# Altium footprint library MyLibrary.PcbLib: 365 footprints (part 3 of 23)
Each footprint in its own frame and in the unit in brackets; x right, y up, seen from the top. Pads: shape width x height; smd on the part's side, far side on the other; paste and mask are expansions set on the pad; w line width, h text height; cw(c..) or ccw(c..) is an arc to the next point about the centre after c.
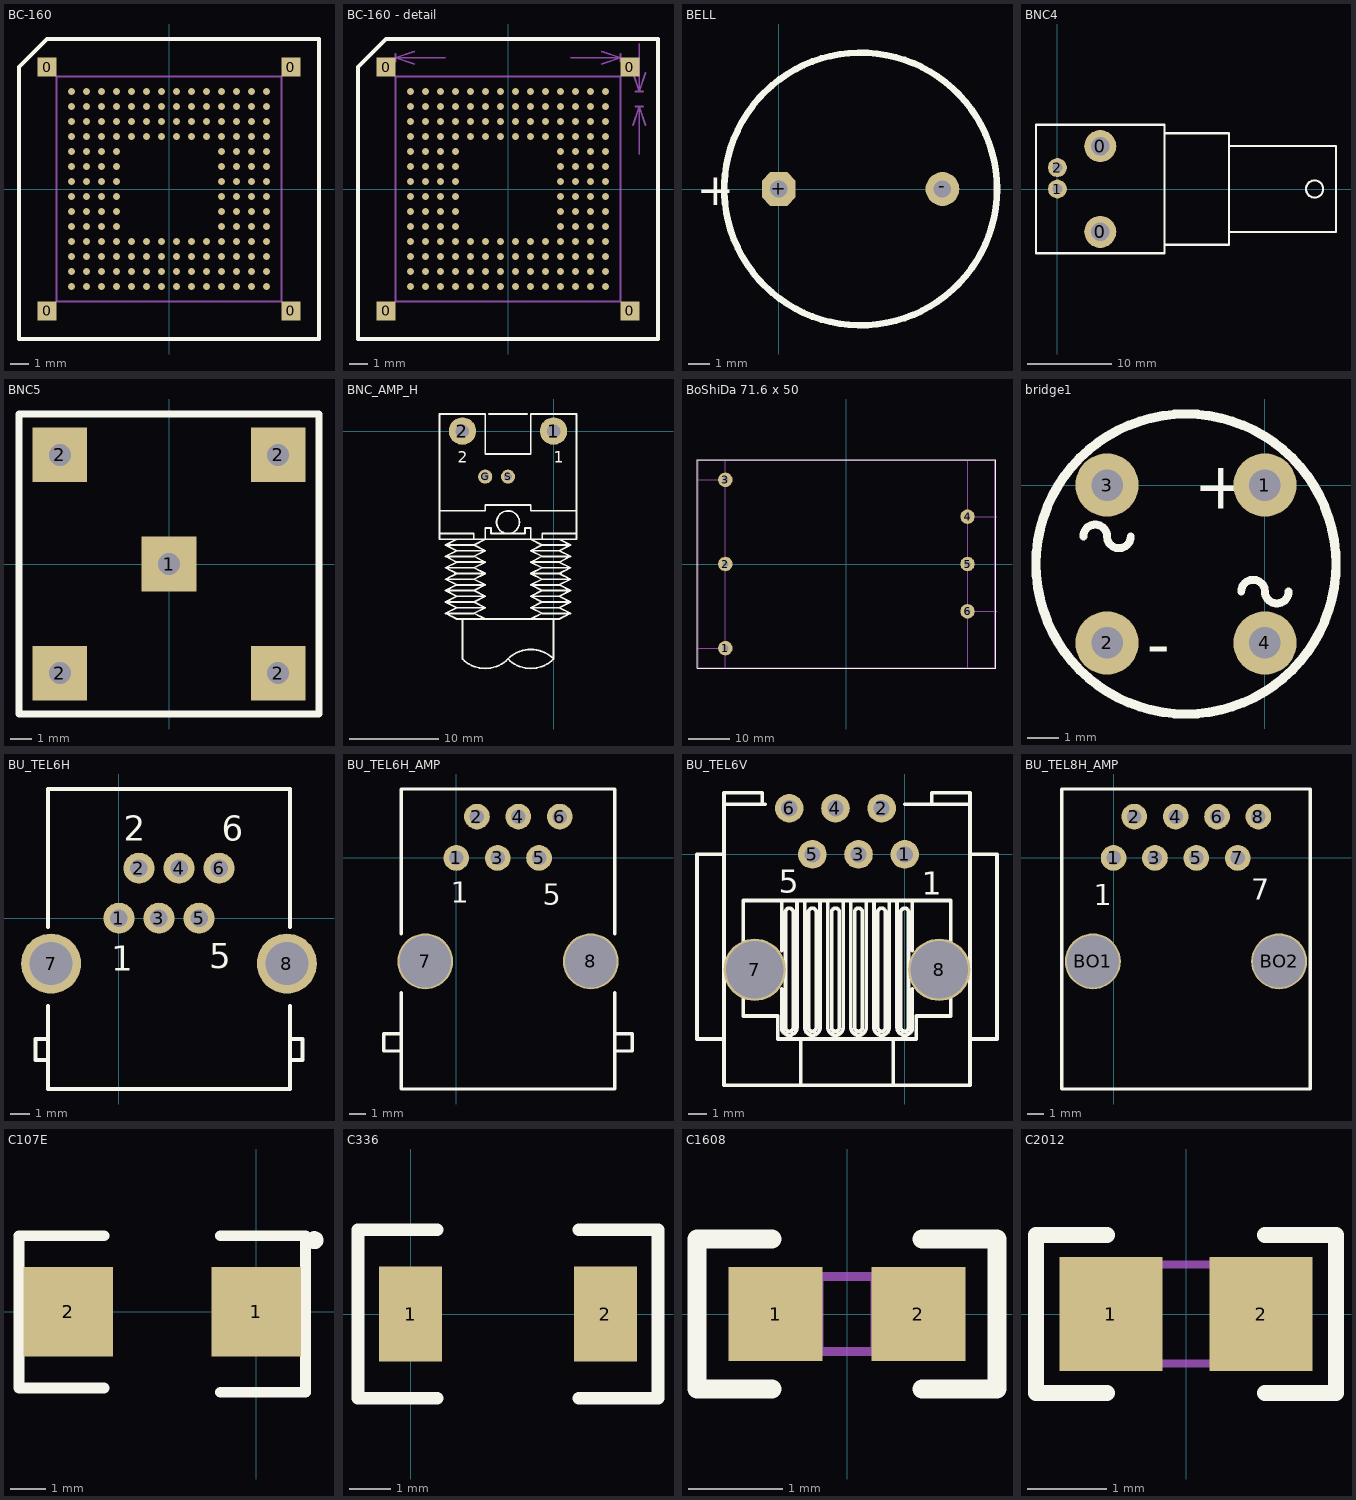
[diagram p2: the footprints below, top view; thin cyan lines are the x and y axes]

## BC-160 [mm]
pads (164):
  rect 1x1 smd: 0(-6.5,-6.5) 0(-6.5,6.5) 0(6.5,-6.5) 0(6.5,6.5)
  round 0.36 smd: A1(-5.2,5.2) A2(-4.4,5.2) A3(-3.6,5.2) A4(-2.8,5.2) A5(-2,5.2) A6(-1.2,5.2) A7(-0.4,5.2) A8(0.4,5.2) A9(1.2,5.2) A10(2,5.2) A11(2.8,5.2) A12(3.6,5.2) A13(4.4,5.2) A14(5.2,5.2) B1(-5.2,4.4) B2(-4.4,4.4) B3(-3.6,4.4) B4(-2.8,4.4) B5(-2,4.4) B6(-1.2,4.4) B7(-0.4,4.4) B8(0.4,4.4) B9(1.2,4.4) B10(2,4.4) B11(2.8,4.4) B12(3.6,4.4) B13(4.4,4.4) B14(5.2,4.4) C1(-5.2,3.6) C2(-4.4,3.6) C3(-3.6,3.6) C4(-2.8,3.6) C5(-2,3.6) C6(-1.2,3.6) C7(-0.4,3.6) C8(0.4,3.6) C9(1.2,3.6) C10(2,3.6) C11(2.8,3.6) C12(3.6,3.6) C13(4.4,3.6) C14(5.2,3.6) D1(-5.2,2.8) D2(-4.4,2.8) D3(-3.6,2.8) D4(-2.8,2.8) D5(-2,2.8) D6(-1.2,2.8) D7(-0.4,2.8) D8(0.4,2.8) D9(1.2,2.8) D10(2,2.8) D11(2.8,2.8) D12(3.6,2.8) D13(4.4,2.8) D14(5.2,2.8) E1(-5.2,2) E2(-4.4,2) E3(-3.6,2) E4(-2.8,2) E11(2.8,2) E12(3.6,2) E13(4.4,2) E14(5.2,2) F1(-5.2,1.2) F2(-4.4,1.2) F3(-3.6,1.2) F4(-2.8,1.2) F11(2.8,1.2) F12(3.6,1.2) F13(4.4,1.2) F14(5.2,1.2) G1(-5.2,0.4) G2(-4.4,0.4) G3(-3.6,0.4) G4(-2.8,0.4) G11(2.8,0.4) G12(3.6,0.4) G13(4.4,0.4) G14(5.2,0.4) H1(-5.2,-0.4) H2(-4.4,-0.4) H3(-3.6,-0.4) H4(-2.8,-0.4) H11(2.8,-0.4) H12(3.6,-0.4) H13(4.4,-0.4) H14(5.2,-0.4) J1(-5.2,-1.2) J2(-4.4,-1.2) J3(-3.6,-1.2) J4(-2.8,-1.2) J11(2.8,-1.2) J12(3.6,-1.2) J13(4.4,-1.2) J14(5.2,-1.2) K1(-5.2,-2) K2(-4.4,-2) K3(-3.6,-2) K4(-2.8,-2) K11(2.8,-2) K12(3.6,-2) K13(4.4,-2) K14(5.2,-2) L1(-5.2,-2.8) L2(-4.4,-2.8) L3(-3.6,-2.8) L4(-2.8,-2.8) L5(-2,-2.8) L6(-1.2,-2.8) L7(-0.4,-2.8) L8(0.4,-2.8) L9(1.2,-2.8) L10(2,-2.8) L11(2.8,-2.8) L12(3.6,-2.8) L13(4.4,-2.8) L14(5.2,-2.8) M1(-5.2,-3.6) M2(-4.4,-3.6) M3(-3.6,-3.6) M4(-2.8,-3.6) M5(-2,-3.6) M6(-1.2,-3.6) M7(-0.4,-3.6) M8(0.4,-3.6) M9(1.2,-3.6) M10(2,-3.6) M11(2.8,-3.6) M12(3.6,-3.6) M13(4.4,-3.6) M14(5.2,-3.6) N1(-5.2,-4.4) N2(-4.4,-4.4) N3(-3.6,-4.4) N4(-2.8,-4.4) N5(-2,-4.4) N6(-1.2,-4.4) N7(-0.4,-4.4) N8(0.4,-4.4) N9(1.2,-4.4) N10(2,-4.4) N11(2.8,-4.4) N12(3.6,-4.4) N13(4.4,-4.4) N14(5.2,-4.4) P1(-5.2,-5.2) P2(-4.4,-5.2) P3(-3.6,-5.2) P4(-2.8,-5.2) P5(-2,-5.2) P6(-1.2,-5.2) P7(-0.4,-5.2) P8(0.4,-5.2) P9(1.2,-5.2) P10(2,-5.2) P11(2.8,-5.2) P12(3.6,-5.2) P13(4.4,-5.2) P14(5.2,-5.2)
Top Overlay:
  lines w0.2: -8,-8 -8,6.5 -6.5,8 8,8 8,-8 -8,-8
Mechanical 1:
  lines w0.1: -6,-6 6,-6 6,6 -6,6 -6,-6

## BC-160 - detail [mm]
pads (164):
  rect 1x1 smd: 0(-6.5,-6.5) 0(-6.5,6.5) 0(6.5,-6.5) 0(6.5,6.5)
  round 0.36 smd: A1(-5.2,5.2) A2(-4.4,5.2) A3(-3.6,5.2) A4(-2.8,5.2) A5(-2,5.2) A6(-1.2,5.2) A7(-0.4,5.2) A8(0.4,5.2) A9(1.2,5.2) A10(2,5.2) A11(2.8,5.2) A12(3.6,5.2) A13(4.4,5.2) A14(5.2,5.2) B1(-5.2,4.4) B2(-4.4,4.4) B3(-3.6,4.4) B4(-2.8,4.4) B5(-2,4.4) B6(-1.2,4.4) B7(-0.4,4.4) B8(0.4,4.4) B9(1.2,4.4) B10(2,4.4) B11(2.8,4.4) B12(3.6,4.4) B13(4.4,4.4) B14(5.2,4.4) C1(-5.2,3.6) C2(-4.4,3.6) C3(-3.6,3.6) C4(-2.8,3.6) C5(-2,3.6) C6(-1.2,3.6) C7(-0.4,3.6) C8(0.4,3.6) C9(1.2,3.6) C10(2,3.6) C11(2.8,3.6) C12(3.6,3.6) C13(4.4,3.6) C14(5.2,3.6) D1(-5.2,2.8) D2(-4.4,2.8) D3(-3.6,2.8) D4(-2.8,2.8) D5(-2,2.8) D6(-1.2,2.8) D7(-0.4,2.8) D8(0.4,2.8) D9(1.2,2.8) D10(2,2.8) D11(2.8,2.8) D12(3.6,2.8) D13(4.4,2.8) D14(5.2,2.8) E1(-5.2,2) E2(-4.4,2) E3(-3.6,2) E4(-2.8,2) E11(2.8,2) E12(3.6,2) E13(4.4,2) E14(5.2,2) F1(-5.2,1.2) F2(-4.4,1.2) F3(-3.6,1.2) F4(-2.8,1.2) F11(2.8,1.2) F12(3.6,1.2) F13(4.4,1.2) F14(5.2,1.2) G1(-5.2,0.4) G2(-4.4,0.4) G3(-3.6,0.4) G4(-2.8,0.4) G11(2.8,0.4) G12(3.6,0.4) G13(4.4,0.4) G14(5.2,0.4) H1(-5.2,-0.4) H2(-4.4,-0.4) H3(-3.6,-0.4) H4(-2.8,-0.4) H11(2.8,-0.4) H12(3.6,-0.4) H13(4.4,-0.4) H14(5.2,-0.4) J1(-5.2,-1.2) J2(-4.4,-1.2) J3(-3.6,-1.2) J4(-2.8,-1.2) J11(2.8,-1.2) J12(3.6,-1.2) J13(4.4,-1.2) J14(5.2,-1.2) K1(-5.2,-2) K2(-4.4,-2) K3(-3.6,-2) K4(-2.8,-2) K11(2.8,-2) K12(3.6,-2) K13(4.4,-2) K14(5.2,-2) L1(-5.2,-2.8) L2(-4.4,-2.8) L3(-3.6,-2.8) L4(-2.8,-2.8) L5(-2,-2.8) L6(-1.2,-2.8) L7(-0.4,-2.8) L8(0.4,-2.8) L9(1.2,-2.8) L10(2,-2.8) L11(2.8,-2.8) L12(3.6,-2.8) L13(4.4,-2.8) L14(5.2,-2.8) M1(-5.2,-3.6) M2(-4.4,-3.6) M3(-3.6,-3.6) M4(-2.8,-3.6) M5(-2,-3.6) M6(-1.2,-3.6) M7(-0.4,-3.6) M8(0.4,-3.6) M9(1.2,-3.6) M10(2,-3.6) M11(2.8,-3.6) M12(3.6,-3.6) M13(4.4,-3.6) M14(5.2,-3.6) N1(-5.2,-4.4) N2(-4.4,-4.4) N3(-3.6,-4.4) N4(-2.8,-4.4) N5(-2,-4.4) N6(-1.2,-4.4) N7(-0.4,-4.4) N8(0.4,-4.4) N9(1.2,-4.4) N10(2,-4.4) N11(2.8,-4.4) N12(3.6,-4.4) N13(4.4,-4.4) N14(5.2,-4.4) P1(-5.2,-5.2) P2(-4.4,-5.2) P3(-3.6,-5.2) P4(-2.8,-5.2) P5(-2,-5.2) P6(-1.2,-5.2) P7(-0.4,-5.2) P8(0.4,-5.2) P9(1.2,-5.2) P10(2,-5.2) P11(2.8,-5.2) P12(3.6,-5.2) P13(4.4,-5.2) P14(5.2,-5.2)
Top Overlay:
  lines w0.2: -8,-8 -8,6.5 -6.5,8 8,8 8,-8 -8,-8
Mechanical 1:
  lines w0.1: -6,6.8 -6,7.2 ; -5,6.667 -6,7 ; -5,7.333 -6,7 ; -3.353,7 -6,7 ; 3.353,7 6,7 ; 5,6.667 6,7 ; 5,7.333 6,7 ; 6,6.8 6,7.2 ; 6.667,3.4 7,4.4 ; 6.667,6.2 7,5.2 ; 6.8,4.4 7.2,4.4 ; 6.8,5.2 7.2,5.2 ; 7,1.86 7,4.4 ; 7,7.74 7,5.2 ; 7.333,3.4 7,4.4 ; 7.333,6.2 7,5.2 ; -6,-6 6,-6 6,6 -6,6 -6,-6
  text "12 (mm)" at -1.9,6.8 h0.5
  text "0.8 (mm)" at 8.2,3 h0.5

## BELL [mil]
pads (2):
  oct 62x62 hole 32: +(0,0)
  round 62 hole 32: -(300,0)
Top Overlay:
  circle w12: c150,0 r250
  text "+" at -150,-30 h60

## BNC4 [mil]
pads (4):
  round 150 hole 86: 0(200,-200) 0(200,200)
  round 88 hole 48: 1(0,0) 2(0,100)
Top Overlay:
  circle w10: c1200,0 r40
  lines w10: 500,-260 800,-260 800,260 500,260 ; 800,-200 1300,-200 1300,200 800,200 ; -100,-300 500,-300 500,300 -100,300 -100,-300

## BNC5 [mil]
pads (5):
  rect 100x100 hole 40: 1(0,0) 2(-200,-200) 2(-200,200) 2(200,-200) 2(200,200)
Top Overlay:
  lines w12: -275,-275 275,-275 275,275 -275,275 -275,-275

## BNC_AMP_H [mil]
pads (4):
  round 120 hole 59.5: 1(0,0) 2(-400,0)
  round 62 hole 35: G(-300,-200) S(-200,-200)
Top Overlay:
  circle w8: c-200,-400 r50
  lines w8: -500,-450 -350,-450 -350,-475 ; -500,-350 -300,-350 -300,-325 -100,-325 -100,-350 100,-350 ; -425,-475 -475,-500 ; -400.17,-1000.17 ccw(c-300,-900) -199.83,-1000.17 ; -400,-1000 -400,-825 ; -283.33,75 -116.67,75 ; -200.17,-1000.17 ccw(c-100,-900) 0.17,-1000.17 ; -200.17,-999.83 cw(c-100,-1100) 0.17,-999.83 ; -50,-475 -50,-450 100,-450 ; 0,-1000 0,-825 ; 25,-475 75,-500 ; -475,-800 -425,-775 ; -475,-800 -425,-825 ; -475,-800 -350,-800 ; -475,-750 -425,-725 ; -475,-750 -425,-775 ; -475,-750 -350,-750 ; -475,-700 -425,-675 ; -475,-700 -425,-725 ; -475,-700 -350,-700 ; -475,-650 -425,-625 ; -475,-650 -425,-675 ; -475,-650 -350,-650 ; -475,-600 -425,-575 ; -475,-600 -425,-625 ; -475,-600 -350,-600 ; -475,-550 -425,-525 ; -475,-550 -425,-575 ; -475,-550 -350,-550 ; -475,-500 -425,-525 ; -475,-500 -350,-500 ; -425,-825 25,-825 ; -425,-825 -300,-825 -350,-800 ; -425,-775 -300,-775 ; -425,-725 -300,-725 ; -425,-675 -300,-675 ; -425,-625 -300,-625 ; -425,-575 -300,-575 ; -425,-525 -300,-525 ; -350,-800 -300,-775 ; -350,-750 -300,-725 ; -350,-750 -300,-775 ; -350,-700 -300,-675 ; -350,-700 -300,-725 ; -350,-650 -300,-625 ; -350,-650 -300,-675 ; -350,-600 -300,-575 ; -350,-600 -300,-625 ; -350,-550 -300,-525 ; -350,-550 -300,-575 ; -350,-500 -300,-475 -300,-425 -275,-425 -275,-450 -125,-450 -125,-425 -100,-425 -100,-475 -50,-500 ; -350,-500 -300,-525 ; -100,-775 -50,-750 ; -100,-775 -50,-800 ; -100,-775 25,-775 ; -100,-725 -50,-700 ; -100,-725 -50,-750 ; -100,-725 25,-725 ; -100,-675 -50,-650 ; -100,-675 -50,-700 ; -100,-675 25,-675 ; -100,-625 -50,-600 ; -100,-625 -50,-650 ; -100,-625 25,-625 ; -100,-575 -50,-550 ; -100,-575 -50,-600 ; -100,-575 25,-575 ; -100,-525 -50,-500 ; -100,-525 -50,-550 ; -100,-525 25,-525 ; -50,-800 -100,-825 25,-825 ; -50,-800 75,-800 ; -50,-750 75,-750 ; -50,-700 75,-700 ; -50,-650 75,-650 ; -50,-600 75,-600 ; -50,-550 75,-550 ; -50,-500 75,-500 ; 25,-825 75,-800 ; 25,-775 75,-750 ; 25,-775 75,-800 ; 25,-725 75,-700 ; 25,-725 75,-750 ; 25,-675 75,-650 ; 25,-675 75,-700 ; 25,-625 75,-600 ; 25,-625 75,-650 ; 25,-575 75,-550 ; 25,-575 75,-600 ; 25,-525 75,-500 ; 25,-525 75,-550 ; -500,-475 -500,75 -300,75 -300,-100 -100,-100 -100,75 100,75 100,-475 -500,-475
  text "1" at 0,-140 h50
  text "2" at -420,-140 h50

## BoShiDa 71.6 x 50 [mm]
pads (6):
  round 3.5 hole 1.5: 1(-29.21,-20.32) 2(-29.21,0) 3(-29.21,20.32) 4(29.21,11.43) 5(29.21,0) 6(29.21,-11.43)
Top Overlay:
  lines w0.2: -36,-25.2 -36,25.2 36,25.2 36,-25.2 -36,-25.2
Mechanical 1:
  lines w0.1: -36.068,-20.32 -28.956,-20.32 ; -36.068,20.32 -28.956,20.32 ; -29.21,-25 -29.21,25 ; 28.702,-11.43 36.322,-11.43 ; 28.702,11.43 36.322,11.43 ; 29.21,-25 29.21,25 ; -35.8,-25 35.8,-25 35.8,25 -35.8,25 -35.8,-25

## bridge1 [mil]
pads (4):
  round 80 hole 40: 1(0,0) 2(-200,-200) 3(-200,0) 4(0,-200)
Top Overlay:
  circle w12: c-100,-100 r190
  lines w10: -230,-65 cw(c-215,-65) -200,-65 ccw(c-185,-65) -170,-65 ; -30,-135 cw(c-15,-135) 0,-135 ccw(c15,-135) 30,-135
  text "+" at -90,-30 h60
  text "-" at -150,-230 h60

## BU_TEL6H [mil]
pads (8):
  round 62 hole 35: 1(0,0) 2(40,100) 3(80,0) 4(120,100) 5(160,0) 6(200,100)
  round 120 hole 86: 7(-135.83,-90.83) 8(335.83,-90.83)
Top Overlay:
  lines w8: -141.67,-283.33 -166.67,-283.33 -166.67,-241.67 -141.67,-241.67 ; -141.67,-175.59 -141.67,-341.67 341.67,-341.67 341.67,-175.59 ; -141.67,-18.11 -141.67,258.33 341.67,258.33 341.67,-18.11 ; 341.67,-283.33 366.67,-283.33 366.67,-241.67 341.67,-241.67
  text "6" at 205,155 h50
  text "2" at 10,155 h50
  text "5" at 180,-100 h50
  text "1" at -15,-105 h50

## BU_TEL6H_AMP [mil]
pads (8):
  round 62 hole 35: 1(0,0) 2(50,100) 3(100,0) 4(150,100) 5(200,0) 6(250,100)
  round 135 hole 125: 7(-75,-250) 8(325,-250)
Top Overlay:
  lines w8: -133.33,-466.67 -175,-466.67 -175,-425 -133.33,-425 ; -133.33,-325.2 -133.33,-558.33 383.33,-558.33 383.33,-325.2 ; -133.33,-183.47 -133.33,166.67 383.33,166.67 383.33,-183.47 ; 383.33,-466.67 425,-466.67 425,-425 383.33,-425
  text "5" at 208.43,-112.68 h50
  text "1" at -13.65,-108.32 h50

## BU_TEL6V [mil]
pads (8):
  round 62 hole 35: 1(0,0) 2(-50,100) 3(-100,0) 4(-150,100) 5(-200,0) 6(-250,100)
  round 135 hole 125: 7(-325,-250) 8(75,-250)
Top Overlay:
  circle w8: c-325,-250 r58.33
  circle w8: c75,-250 r58.33
  lines w8: -391.67,-400 -450,-400 -450,0 -391.67,0 ; -350,-308.33 -350,-350 -275,-350 -275,-400 -225,-400 ; -350,-191.67 -350,-100 -275,-100 -266.67,-100 ; -308.33,108.33 -308.33,116.67 -308.33,133.33 -391.67,133.33 -391.67,108.33 ; -302.17,108.33 -391.67,108.33 ; -266.67,-291.67 -266.67,-375 ccw(c-250,-375) -233.33,-375 -233.33,-100 ; -266.67,-208.33 -266.67,-100 ; -225,-500 -225,-400 ; -216.67,-100 -216.67,-375 ccw(c-200,-375) -183.33,-375 -183.33,-100 ; -166.67,-100 -166.67,-375 ccw(c-150,-375) -133.33,-375 -133.33,-100 ; -116.67,-100 -116.67,-375 ccw(c-100,-375) -83.33,-375 -83.33,-100 ; -66.67,-100 -66.67,-375 ccw(c-50,-375) -33.33,-375 -33.33,-100 ; -25,-500 -25,-400 ; -16.67,-100 -16.67,-375 ccw(c0,-375) 16.67,-375 16.67,-291.67 ; 0,108.33 141.67,108.33 ; 16.67,-208.33 16.67,-100 ; 58.33,108.33 58.33,133.33 141.67,133.33 141.67,108.33 ; 100,-308.33 100,-350 25,-350 25,-400 -25,-400 ; 100,-191.67 100,-100 25,-100 -266.67,-100 ; 141.67,-400 200,-400 200,0 141.67,0 ; -391.67,108.33 -391.67,-500 141.67,-500 141.67,108.33 ; -225,-400 -25,-400 ; -258.33,-375 ccw(c-250,-375) -241.67,-375 -241.67,-125 ccw(c-250,-125) -258.33,-125 -258.33,-375 ; -208.33,-375 ccw(c-200,-375) -191.67,-375 -191.67,-125 ccw(c-200,-125) -208.33,-125 -208.33,-375 ; -158.33,-375 ccw(c-150,-375) -141.67,-375 -141.67,-125 ccw(c-150,-125) -158.33,-125 -158.33,-375 ; -108.33,-375 ccw(c-100,-375) -91.67,-375 -91.67,-125 ccw(c-100,-125) -108.33,-125 -108.33,-375 ; -58.33,-375 ccw(c-50,-375) -41.67,-375 -41.67,-125 ccw(c-50,-125) -58.33,-125 -58.33,-375 ; -8.33,-375 ccw(c0,-375) 8.33,-375 8.33,-125 ccw(c0,-125) -8.33,-125 -8.33,-375
  text "1" at 37.4,-87.31 h50
  text "5" at -272.47,-83.5 h50

## BU_TEL8H_AMP [mil]
pads (10):
  round 62 hole 35: 1(0,0) 2(50,100) 3(100,0) 4(150,100) 5(200,0) 6(250,100) 7(300,0) 8(350,100)
  round 135 hole 125: BO1(-50,-250) BO2(400,-250)
Top Overlay:
  lines w8: -125,-558.33 -125,166.67 475,166.67 475,-558.33 -125,-558.33
  text "1" at -47.84,-114.13 h50
  text "7" at 332.45,-101.06 h50

## C107E [mil]
pads (2):
  rect 100x100 smd: 1(0,0) 2(-210,0)
Top Overlay:
  circle w10: c65,80 r5
  lines w12: -170,-85 -265,-85 -265,85 -170,85 ; -40,-90 55,-90 55,85 -40,85

## C336 [mil]
pads (2):
  rect 60x90 smd: 1(0,0) 2(185,0)
Top Overlay:
  lines w12: 25,-80 -50,-80 -50,80 25,80 ; 160,-80 235,-80 235,80 160,80

## C1608 [mm]
pads (2):
  rect 1x1 smd: 1(-0.762,0) 2(0.762,0)
Top Overlay:
  lines w0.2: -0.8,-0.8 -1.6,-0.8 -1.6,0.8 -0.8,0.8 ; 0.8,-0.8 1.6,-0.8 1.6,0.8 0.8,0.8
Mechanical 1:
  lines w0.1: -0.3,-0.4 -0.3,0.4 ; 0.3,-0.4 0.3,0.4 ; -0.8,-0.4 0.8,-0.4 0.8,0.4 -0.8,0.4 -0.8,-0.4

## C2012 [mm]
pads (2):
  rect 1.3x1.45 smd: 1(-0.95,0) 2(0.95,0)
Top Overlay:
  lines w0.2: -1,-1 -1.9,-1 -1.9,1 -1,1 ; 1,-1 1.9,-1 1.9,1 1,1
Mechanical 1:
  lines w0.1: -0.4,-0.625 -0.4,0.625 ; 0.4,-0.625 0.4,0.625 ; -1,-0.625 1,-0.625 1,0.625 -1,0.625 -1,-0.625